# EAGLE library part PIN_HEADER_6 (library icmi-connectors)
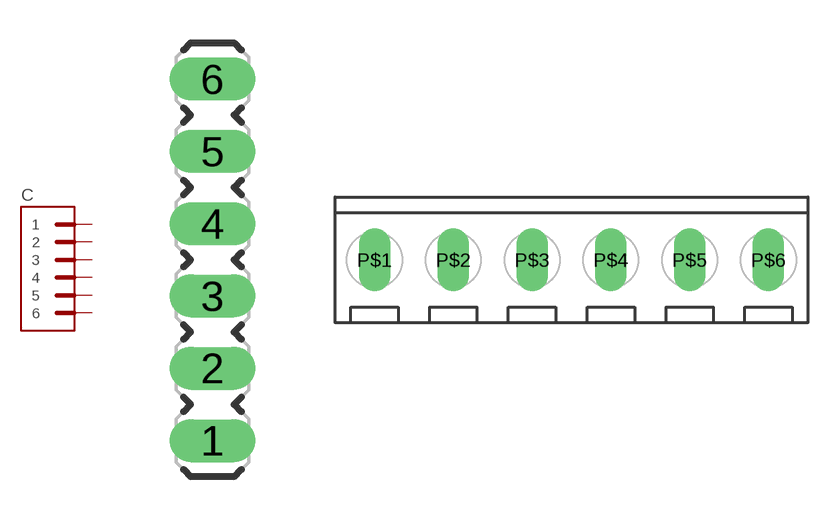
[diagram p2: symbol with the pads of BREAKAWAY_STRAIGHT_6_WIDE; footprints BREAKAWAY_STRAIGHT_6_WIDE, TERMINAL_BLOCK_6]

Designator prefix C

## PIN_HEADER_6-WIDE  [BREAKAWAY_STRAIGHT_6_WIDE]
1  1  pas
2  2  pas
3  3  pas
4  4  pas
5  5  pas
6  6  pas

## PIN_HEADER_6-SCREW-TERMINAL  [TERMINAL_BLOCK_6]
P$1  1  pas
P$2  2  pas
P$3  3  pas
P$4  4  pas
P$5  5  pas
P$6  6  pas

## Footprint BREAKAWAY_STRAIGHT_6_WIDE (pad centres in mm)
drill 1 long: 1 0,-6.35; 2 0,-3.81; 3 0,-1.27; 4 0,1.27; 5 0,3.81; 6 0,6.35

## Footprint TERMINAL_BLOCK_6 (pad centres in mm)
Screw type terminal block, 6 contacts, 5mm pitch
drill 1 pad 2 long: P$1 -12.5,0; P$2 -7.5,0; P$3 -2.5,0; P$4 2.5,0; P$5 7.5,0; P$6 12.5,0